# Altium footprint library 20021311-00006T4LF.PcbLib: 1 footprints
Each footprint in its own frame and in the unit in brackets; x right, y up, seen from the top. Pads: shape width x height; smd on the part's side, far side on the other; paste and mask are expansions set on the pad; w line width, h text height; cw(c..) or ccw(c..) is an arc to the next point about the centre after c.
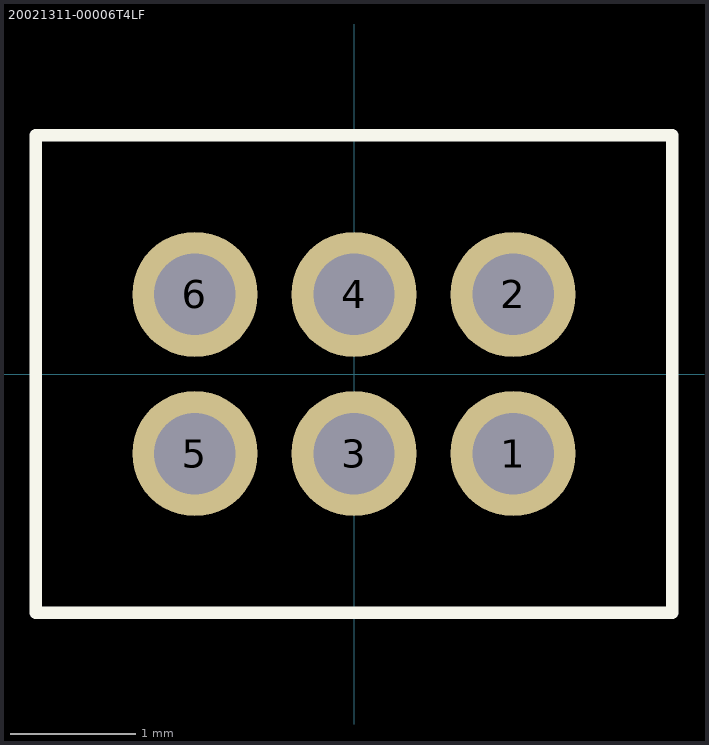
[diagram p0: the footprint, top view; thin cyan lines are the x and y axes]

## 20021311-00006T4LF [mm]
pads (6):
  round 1 hole 0.65: 1(1.27,-0.635) 2(1.27,0.635) 3(0,-0.635) 4(0,0.635) 5(-1.27,-0.635) 6(-1.27,0.635)
Top Overlay:
  lines w0.1: -2.54,-1.905 2.54,-1.905 2.54,1.905 -2.54,1.905 -2.54,-1.905
3D body: height 4.3, standoff -2.4, extent -2.135,-1.5 2.135,1.5